# EAGLE library part BDCN-20-13+ (library low-gain-radio)
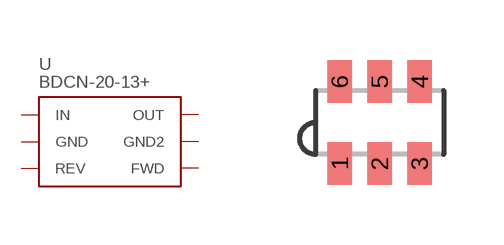
[diagram p9: symbol with the pads of FV1206-1; footprint FV1206-1]

Designator prefix U

## BDCN-20-13+  [FV1206-1]
1  IN
2  GND  pwr
3  REV  out
4  OUT
5  GND2  pwr
6  FWD  out

## Footprint FV1206-1 (pad centres in mm)
smd 0.61 x 1.07: 1 -1,-1.025; 2 0,-1.025; 3 1,-1.025; 4 1,1.025; 5 0,1.025; 6 -1,1.025